# Altium schematic symbol library TSM-110-01-F-DV.SchLib: 1 symbol
Pins are listed as number, name and electrical type; pins without a type are passive.

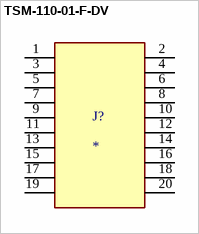
[diagram p0: symbol TSM-110-01-F-DV]

## TSM-110-01-F-DV
designator J?
MF: Samtec; MP: TSM-110-01-F-DV; Value: *; Price: None; Package: None; Availability: Unavailable
footprint SAMTEC_TSM-110-01-F-DV
pins: 1, 2, 3, 4, 5, 6, 7, 8, 9, 10, 11, 12, 13, 14, 15, 16, 17, 18, 19, 20